# Altium schematic symbol library Banana-2.0-M.Schlib: 1 symbol
Pins are listed as number, name and electrical type; pins without a type are passive.

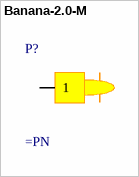
[diagram p0: symbol Banana-2.0-M]

## Banana-2.0-M
designator P?
Banana 2.0mm Male
pins: 1